# EAGLE library part 691314520108 (library Wurth_Terminal_Blocks_Connectors_rev15d)
WR-TBL Serie 314 - 5.08mm Close 45° PCB Header with Flanges , 8 pins=>Code : WR-TBL_314_691314520108 <http://katalog.we-online.de/media/images/eican/WR-TBL_314_691314520103_pf2.jpg> Details see: http://katalog.we-online.de/en/em/691_314_520_1xx Created 2014-06-25, Karrer Zheng 2014 (C) Würth Elektronik
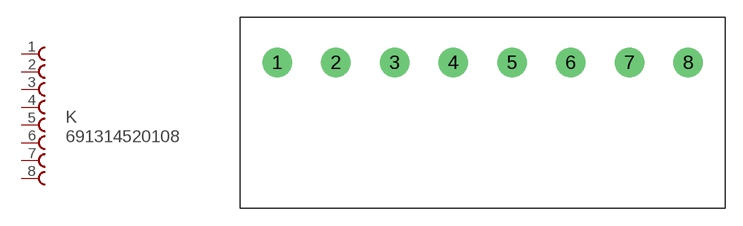
[diagram p154: symbol with the pads of 691314520108; footprint 691314520108]

Designator prefix K

## 691314520108  [691314520108]
1  1  pas
2  2  pas
3  3  pas
4  4  pas
5  5  pas
6  6  pas
7  7  pas
8  8  pas

## Footprint 691314520108 (pad centres in mm)
WR-TBL Serie 314 - 5.08mm Close 45° PCB Header with Flanges , 8 pins
drill 1.7: 1 -30.48,0; 2 -25.4,0; 3 -20.32,0; 4 -15.24,0; 5 -10.16,0; 6 -5.08,0; 7 0,0; 8 5.08,0